# EAGLE library part AD8028ARM-REEL7 (library My_Library)
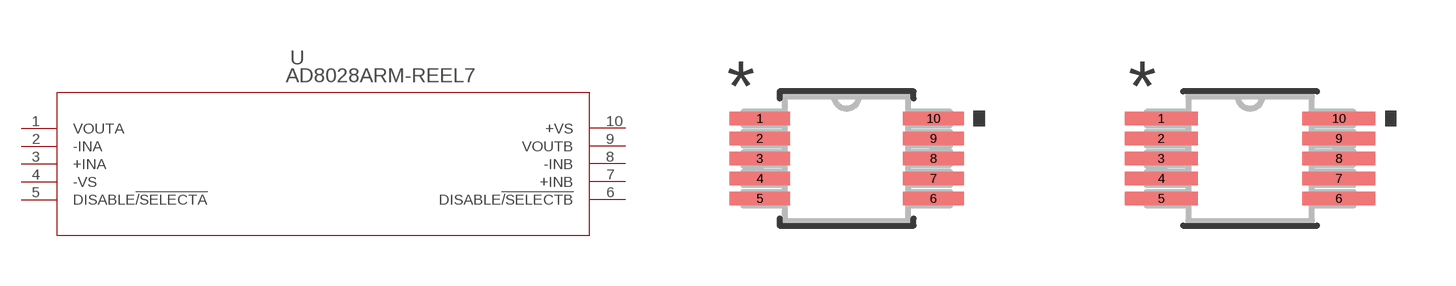
[diagram p21: symbol with the pads of RM_10_ADI; footprints RM_10_ADI, RM_10_ADI-M]

Designator prefix U

## AD8028ARM-REEL7 (COPYRIGHT: Copyright (C) 2024 Ultra Librarian. All rights reserved.; MANUFACTURER_PART_NUMBER: AD8028ARM-REEL7; MFR_NAME: Analog Devices Inc)  [RM_10_ADI]
1  VOUTA  pas
2  -INA  pas
3  +INA  pas
4  -VS  pwr
5  DISABLE!/SELECTA  pas
6  DISABLE!/SELECTB  pas
7  +INB  pas
8  -INB  pas
9  VOUTB  pas
10  +VS  pwr

## AD8028ARM-REEL7RM_10_ADI-M (COPYRIGHT: Copyright (C) 2024 Ultra Librarian. All rights reserved.; MANUFACTURER_PART_NUMBER: AD8028ARM-REEL7; MFR_NAME: Analog Devices Inc)  [RM_10_ADI-M]
Pads as for RM_10_ADI

## AD8028ARM-REEL7RM_10_ADI-L (COPYRIGHT: Copyright (C) 2024 Ultra Librarian. All rights reserved.; MANUFACTURER_PART_NUMBER: AD8028ARM-REEL7; MFR_NAME: Analog Devices Inc)  [RM_10_ADI-L]
Pads as for RM_10_ADI

## Footprint RM_10_ADI (pad centres in mm)
smd 1.524 x 0.33: 1 -2.172,1; 2 -2.172,0.5; 3 -2.172,0; 4 -2.172,-0.5; 5 -2.172,-1; 6 2.172,-1; 7 2.172,-0.5; 8 2.172,0; 9 2.172,0.5; 10 2.172,1

## Footprint RM_10_ADI-M (pad centres in mm)
smd 1.829 x 0.33: 1 -2.223,1; 2 -2.223,0.5; 3 -2.223,0; 4 -2.223,-0.5; 5 -2.223,-1; 6 2.223,-1; 7 2.223,-0.5; 8 2.223,0; 9 2.223,0.5; 10 2.223,1

## Footprint RM_10_ADI-L (pad centres in mm)
smd 1.219 x 0.279: 1 -2.121,1; 2 -2.121,0.5; 3 -2.121,0; 4 -2.121,-0.5; 5 -2.121,-1; 6 2.121,-1; 7 2.121,-0.5; 8 2.121,0; 9 2.121,0.5; 10 2.121,1